# EAGLE library part MICROMATCH_1X8 (library custom-connectors)
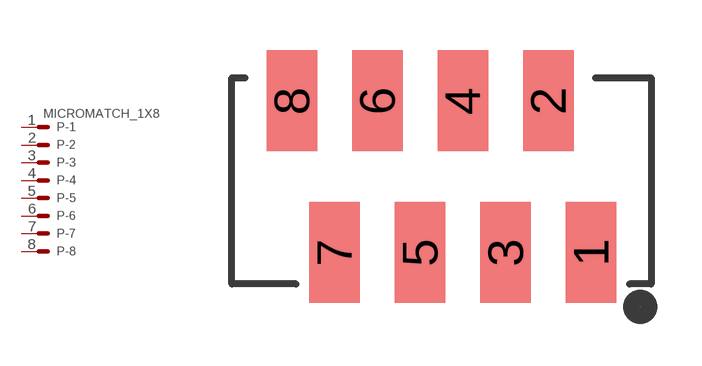
[diagram p23: symbol with the pads of 1X8_MICROMATCH; footprint 1X8_MICROMATCH]

Designator prefix P; gates -1=MV -2=M -3=M -4=M -5=M -6=M -7=M -8=M

## MICROMATCH_1X8 (DIGI-KEY: A99475TR-ND)  [1X8_MICROMATCH]
1  -1:S  pas
2  -2:S  pas
3  -3:S  pas
4  -4:S  pas
5  -5:S  pas
6  -6:S  pas
7  -7:S  pas
8  -8:S  pas

## Footprint 1X8_MICROMATCH (pad centres in mm)
smd 1.5 x 3: 1 4.445,-2.035; 2 3.175,2.474; 3 1.905,-2.035; 4 0.635,2.474; 5 -0.635,-2.035; 6 -1.905,2.474; 7 -3.175,-2.035; 8 -4.445,2.474